# Altium integrated library QD9619.IntLib: 1 symbol
Pins are listed as number, name and electrical type; pins without a type are passive.

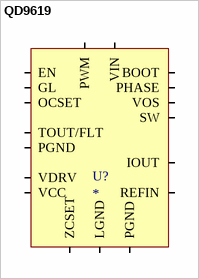
[diagram p0: symbol QD9619]

## QD9619
designator U?
Smart Power Stage (SPS)  QD9619
pins: 1 VOS, 2 LGND, 3 VCC, 4 VDRV, 5 PGND, 6 GL, 7 REFIN, 8 IOUT, 9 OCSET, 10 TOUT/FLT, 10 PGND, 11 EN, 12 PWM, 13 BOOT, 14 PHASE, 15 ZCSET, 16 VIN, 17 SW